# EAGLE library part SBH41-NBPB-D06-ST (library con-sullins)
HEADER
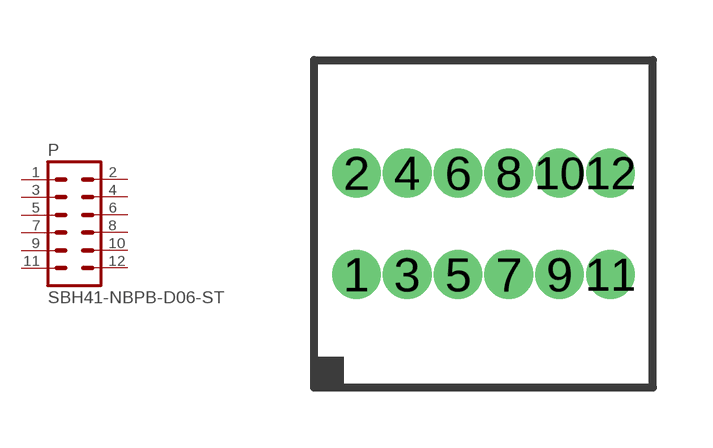
[diagram p59: symbol with the pads of SBH41-NBPB-D06-ST; footprint SBH41-NBPB-D06-ST]

Designator prefix P

## SBH41-NBPB-D06-ST  [SBH41-NBPB-D06-ST]
1  1  pas
2  2  pas
3  3  pas
4  4  pas
5  5  pas
6  6  pas
7  7  pas
8  8  pas
9  9  pas
10  10  pas
11  11  pas
12  12  pas

## Footprint SBH41-NBPB-D06-ST (pad centres in mm)
HEADER
drill 0.711: 1 -3.175,-1.27; 2 -3.175,1.27; 3 -1.905,-1.27; 4 -1.905,1.27; 5 -0.635,-1.27; 6 -0.635,1.27; 7 0.635,-1.27; 8 0.635,1.27; 9 1.905,-1.27; 10 1.905,1.27; 11 3.175,-1.27; 12 3.175,1.27